# EAGLE library part 62100621921 (library Board_to_Board_Connectors_rev15d)
WR-PHD 2.00mm Dual SMT Pin Header, 6 Pins=>Code :WR-PHD_SMD_2,00mm_zweireihig62100621921 <http://katalog.we-online.de/media/images/eican/WR-PHD_SMD_2,00mm_zweireihig62103221921.jpg> Details see: http://katalog.we-online.de/en/em/621_0xx_219_21 Created 2014-06-03, Karrer Zheng 2014 (C) Würth Elektronik
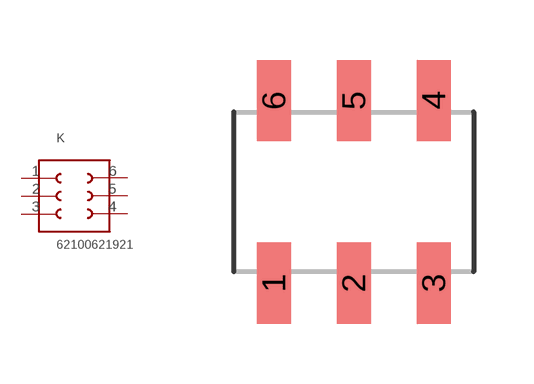
[diagram p242: symbol with the pads of 62100621921; footprint 62100621921]

Designator prefix K

## 62100621921  [62100621921]
1  1  pas
2  2  pas
3  3  pas
4  4  pas
5  5  pas
6  6  pas

## Footprint 62100621921 (pad centres in mm)
WR-PHD 2.00mm Dual SMT Pin Header, 6 Pins
smd 0.85 x 2.03: 1 -3,-2.285; 2 -1,-2.285; 3 1,-2.285; 4 1,2.285; 5 -1,2.285; 6 -3,2.285